# EAGLE library part HDR_1X06 (library GPLIB_CONN)
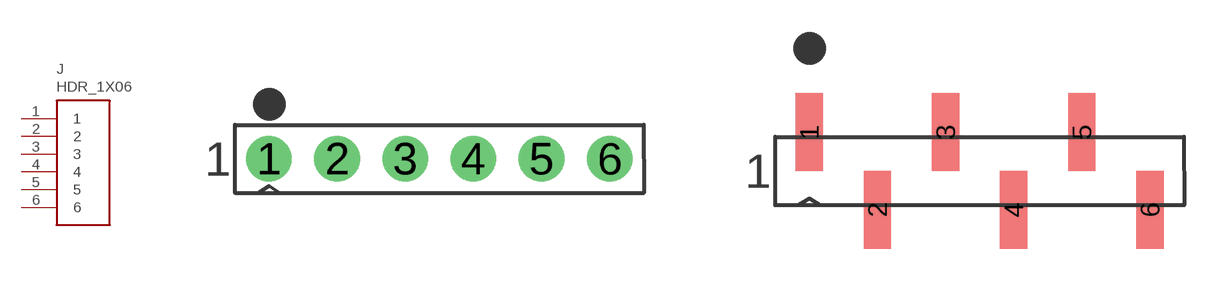
[diagram p18: symbol with the pads of HDR_1X06_2.54MM_TH_ST; footprints HDR_1X06_2.54MM_TH_ST, HDR_1X06_2.54MM_SM_ST]

Designator prefix J

## HDR_1X06_2.54MM_TH_ST  [HDR_1X06_2.54MM_TH_ST]
1  1  pas
2  2  pas
3  3  pas
4  4  pas
5  5  pas
6  6  pas

## HDR_1X06_2.54MM_SM_ST  [HDR_1X06_2.54MM_SM_ST]
Pads as for HDR_1X06_2.54MM_TH_ST

## Footprint HDR_1X06_2.54MM_TH_ST (pad centres in mm)
drill 1.1 pad 1.7: 1 -6.35,0; 2 -3.81,0; 3 -1.27,0; 4 1.27,0; 5 3.81,0; 6 6.35,0

## Footprint HDR_1X06_2.54MM_SM_ST (pad centres in mm)
smd 1.02 x 2.9: 1 -6.35,1.45; 2 -3.81,-1.45; 3 -1.27,1.45; 4 1.27,-1.45; 5 3.81,1.45; 6 6.35,-1.45